# Altium schematic symbol library 593D476X9025E2TE3.SchLib: 1 symbol
Pins are listed as number, name and electrical type; pins without a type are passive.

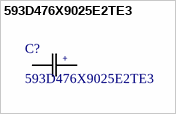
[diagram p0: symbol 593D476X9025E2TE3]

## 593D476X9025E2TE3
designator C?
47uF; Manufacturer_Name: Vishay; Copyright: Copyright (C) 2026 Ultra Librarian. All rights reserved.; Manufacturer_Part_Number: 593D476X9025E2TE3; Datasheet: https://www.vishay.com/doc?40005
footprint CAP_593D-E_VSS
pins: 1, 2
text: +